# EAGLE library part M16C/10(32PIN) (library renesas_mcu)
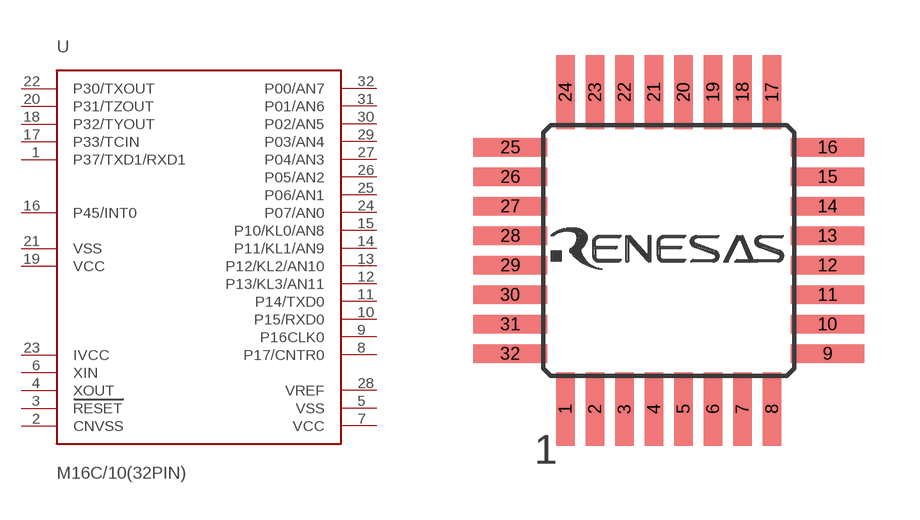
[diagram p22: symbol with the pads of 32P6U-A; footprint 32P6U-A]

Designator prefix -

## M16C/10(32PIN)  [32P6U-A]
1  P37/TXD1/RXD1
2  CNVSS  in
3  RESET  in
4  XOUT  out
5  VSS  pwr
6  XIN
7  VCC  pwr
8  P17/CNTR0
9  P16CLK0
10  P15/RXD0
11  P14/TXD0
12  P13/KL3/AN11
13  P12/KL2/AN10
14  P11/KL1/AN9
15  P10/KL0/AN8
16  P45/INT0
17  P33/TCIN
18  P32/TYOUT
19  VCC  pwr
20  P31/TZOUT
21  VSS  pwr
22  P30/TXOUT
23  IVCC  in
24  P07/AN0
25  P06/AN1
26  P05/AN2
27  P04/AN3
28  VREF  in
29  P03/AN4
30  P02/AN5
31  P01/AN6
32  P00/AN7

## Footprint 32P6U-A (pad centres in mm)
smd 0.5 x 2: 1 -2.8,-4.3; 2 -2,-4.3; 3 -1.2,-4.3; 4 -0.4,-4.3; 5 0.4,-4.3; 6 1.2,-4.3; 7 2,-4.3; 8 2.8,-4.3; 17 2.8,4.3; 18 2,4.3; 19 1.2,4.3; 20 0.4,4.3; 21 -0.4,4.3; 22 -1.2,4.3; 23 -2,4.3; 24 -2.8,4.3
smd 2 x 0.5: 9 4.3,-2.8; 10 4.3,-2; 11 4.3,-1.2; 12 4.3,-0.4; 13 4.3,0.4; 14 4.3,1.2; 15 4.3,2; 16 4.3,2.8; 25 -4.3,2.8; 26 -4.3,2; 27 -4.3,1.2; 28 -4.3,0.4; 29 -4.3,-0.4; 30 -4.3,-1.2; 31 -4.3,-2; 32 -4.3,-2.8